# EAGLE library part GY-521 (library GY-521)
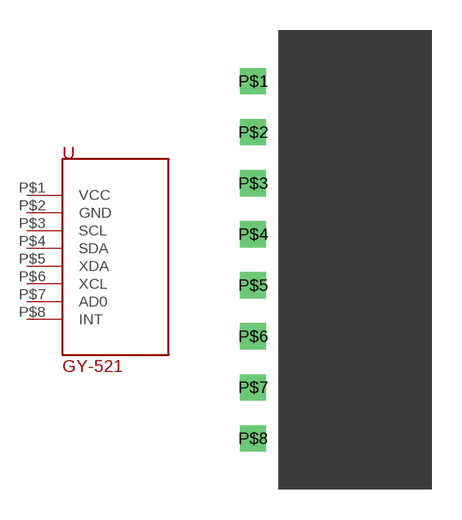
[diagram p0: symbol with the pads of GY-521; footprint GY-521]

Designator prefix -

## GY-521  [GY-521]
P$1  VCC
P$2  GND
P$3  SCL
P$4  SDA
P$5  XDA
P$6  XCL
P$7  AD0
P$8  INT

## Footprint GY-521 (pad centres in mm)
drill 0.8 square: P$1 2.54,0; P$2 2.54,-2.54; P$3 2.54,-5.08; P$4 2.54,-7.62; P$5 2.54,-10.16; P$6 2.54,-12.7; P$7 2.54,-15.24; P$8 2.54,-17.78